# Altium integrated library FQD7P06TM.IntLib: 1 symbol
Pins are listed as number, name and electrical type; pins without a type are passive.

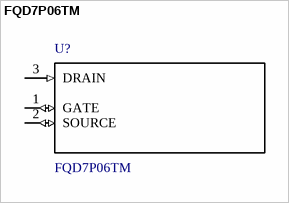
[diagram p0: symbol FQD7P06TM]

## FQD7P06TM
designator U?
Trans MOSFET P-CH 60V 5.4A Automotive 3-Pin_2+Tab_ DPAK T/R; MF: ON Semiconductor; Package: TO-252-3 ON Semiconductor; MP: FQD7P06TM; Price: 0.39 USD; Availability: Good; SnapEDA_Link: https://www.snapeda.com/parts/FQD7P06TM/ON%20Semiconductor/view-part/?ref=snap; Value: *
footprint DPAK229P990X239-4N
pins: 1 GATE (io), 2 SOURCE (io), 3 DRAIN (in)